# EAGLE library part SN65HVD1050 (library texas)
CAN TRANSCEIVER
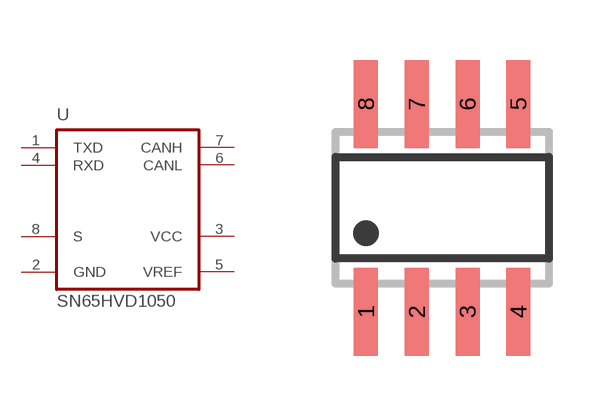
[diagram p32: symbol with the pads of SO08; footprint SO08]

Designator prefix U

## SN65HVD1050  [SO08]
1  TXD  in
2  GND  pwr
3  VCC  pwr
4  RXD  out
5  VREF  pas
6  CANL
7  CANH
8  S  in

## Footprint SO08 (pad centres in mm)
SMALL OUTLINE INTEGRATED CIRCUIT body 3.9 mm/JEDEC MS-012AA
smd 0.6 x 2.2: 1 -1.905,-2.6; 2 -0.635,-2.6; 3 0.635,-2.6; 4 1.905,-2.6; 5 1.905,2.6; 6 0.635,2.6; 7 -0.635,2.6; 8 -1.905,2.6